# Altium footprint library TVS_24V.PcbLib: 1 footprints
Each footprint in its own frame and in the unit in brackets; x right, y up, seen from the top. Pads: shape width x height; smd on the part's side, far side on the other; paste and mask are expansions set on the pad; w line width, h text height; cw(c..) or ccw(c..) is an arc to the next point about the centre after c.
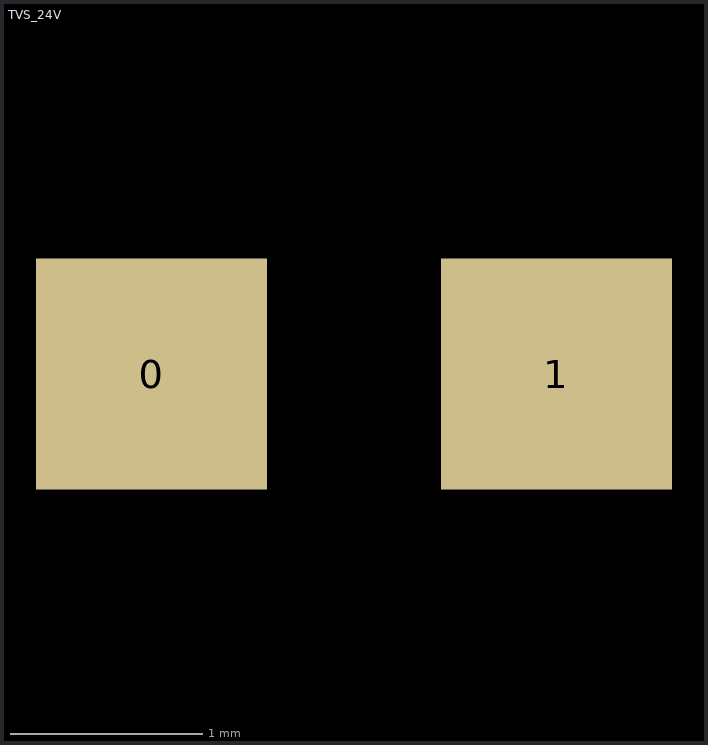
[diagram p0: the footprint, top view; thin cyan lines are the x and y axes]

## TVS_24V [mm]
pads (2):
  rect 1.2x1.2 smd: 0(8.9,14) 1(11,14)
3D body "User Library-RES_3216-1206.step": height 0.85, standoff 0, extent 8.271,13.116 11.621,14.846